# Altium footprint library Connectors.PcbLib: 20 footprints (part 2 of 2)
Each footprint in its own frame and in the unit in brackets; x right, y up, seen from the top. Pads: shape width x height; smd on the part's side, far side on the other; paste and mask are expansions set on the pad; w line width, h text height; cw(c..) or ccw(c..) is an arc to the next point about the centre after c.
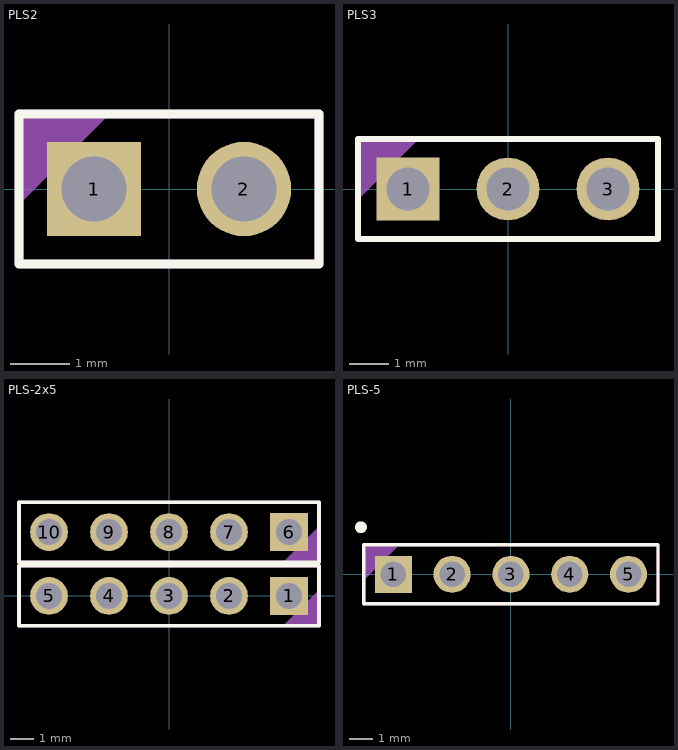
[diagram p1: the footprints below, top view; thin cyan lines are the x and y axes]

## PLS2 [mm]
pads (2):
  rect 1.6x1.6 hole 1.1: 1(-1.27,0)
  round 1.6 hole 1.1: 2(1.27,0)
Top Overlay:
  lines w0.15: -2.54,-1.27 -2.54,1.27 2.54,1.27 2.54,-1.27 -2.54,-1.27
Mechanical 29:
  region: -2.54,1.27 -1.016,1.27 -2.54,-0.254
  lines w0.15: -2.54,-1.27 2.54,-1.27 2.54,1.27 -2.54,1.27 -2.54,-1.27
3D body "PLS-1.STEP": height 8.5, standoff -3, extent -2.54,-1.27 0,1.27
3D body "PLS-1.STEP": height 8.5, standoff -3, extent 0,-1.27 2.54,1.27

## PLS3 [mm]
pads (3):
  rect 1.6x1.6 hole 1.1: 1(-2.54,0)
  round 1.6 hole 1.1: 2(0,0) 3(2.54,0)
Top Overlay:
  lines w0.15: -3.81,-1.27 -3.81,1.27 3.81,1.27 3.81,-1.27 -3.81,-1.27
Mechanical 29:
  region: -3.81,1.27 -2.286,1.27 -3.81,-0.254
  lines w0.15: -3.81,-1.27 3.81,-1.27 3.81,1.27 -3.81,1.27 -3.81,-1.27
3D body "PLS-1.STEP": height 8.5, standoff -3, extent -3.81,-1.27 -1.27,1.27
3D body "PLS-1.STEP": height 8.5, standoff -3, extent -1.27,-1.27 1.27,1.27
3D body "PLS-1.STEP": height 8.5, standoff -3, extent 1.27,-1.27 3.81,1.27

## PLS-2x5 [mm]
pads (10):
  rect 1.6x1.6 hole 1.1: 1(5.08,0) 6(5.08,2.7)
  round 1.6 hole 1.1: 2(2.54,0) 3(0,0) 4(-2.54,0) 5(-5.08,0) 7(2.54,2.7) 8(0,2.7) 9(-2.54,2.7) 10(-5.08,2.7)
Top Overlay:
  lines w0.15: -6.35,-1.27 6.35,-1.27 6.35,1.27 -6.35,1.27 -6.35,-1.27 ; -6.35,1.43 6.35,1.43 6.35,3.97 -6.35,3.97 -6.35,1.43
Mechanical 29:
  region: 6.35,-1.27 4.826,-1.27 6.35,0.254
  region: 6.35,1.43 4.826,1.43 6.35,2.954
  lines w0.15: -6.35,-1.27 -6.35,1.27 6.35,1.27 6.35,-1.27 -6.35,-1.27 ; -6.35,1.43 -6.35,3.97 6.35,3.97 6.35,1.43 -6.35,1.43
3D body "PLS-1.STEP": height 8.5, standoff -3, extent -6.35,-1.27 -3.81,1.27
3D body "PLS-1.STEP": height 8.5, standoff -3, extent -3.81,-1.27 -1.27,1.27
3D body "PLS-1.STEP": height 8.5, standoff -3, extent -1.27,-1.27 1.27,1.27
3D body "PLS-1.STEP": height 8.5, standoff -3, extent 1.27,-1.27 3.81,1.27
3D body "PLS-1.STEP": height 8.5, standoff -3, extent 3.81,-1.27 6.35,1.27
3D body "PLS-1.STEP": height 8.5, standoff -3, extent -6.35,1.43 -3.81,3.97
3D body "PLS-1.STEP": height 8.5, standoff -3, extent -3.81,1.43 -1.27,3.97
3D body "PLS-1.STEP": height 8.5, standoff -3, extent -1.27,1.43 1.27,3.97
3D body "PLS-1.STEP": height 8.5, standoff -3, extent 1.27,1.43 3.81,3.97
3D body "PLS-1.STEP": height 8.5, standoff -3, extent 3.81,1.43 6.35,3.97

## PLS-5 [mm]
pads (5):
  rect 1.6x1.6 hole 1.1: 1(-5.08,0)
  round 1.6 hole 1.1: 2(-2.54,0) 3(0,0) 4(2.54,0) 5(5.08,0)
Top Overlay:
  circle w0.254: c-6.477,2.032 r0.127
  lines w0.15: -6.35,-1.27 -6.35,1.27 6.35,1.27 6.35,-1.27 -6.35,-1.27
Mechanical 29:
  region: -6.35,1.27 -4.826,1.27 -6.35,-0.254
  lines w0.15: -6.35,-1.27 6.35,-1.27 6.35,1.27 -6.35,1.27 -6.35,-1.27
3D body "PLS-1.STEP": height 8.5, standoff -3, extent -6.35,-1.27 -3.81,1.27
3D body "PLS-1.STEP": height 8.5, standoff -3, extent -3.81,-1.27 -1.27,1.27
3D body "PLS-1.STEP": height 8.5, standoff -3, extent -1.27,-1.27 1.27,1.27
3D body "PLS-1.STEP": height 8.5, standoff -3, extent 1.27,-1.27 3.81,1.27
3D body "PLS-1.STEP": height 8.5, standoff -3, extent 3.81,-1.27 6.35,1.27